# Altium integrated library 200130 Precharge Controller R2.IntLib: 62 symbols
Pins are listed as number, name and electrical type; pins without a type are passive.

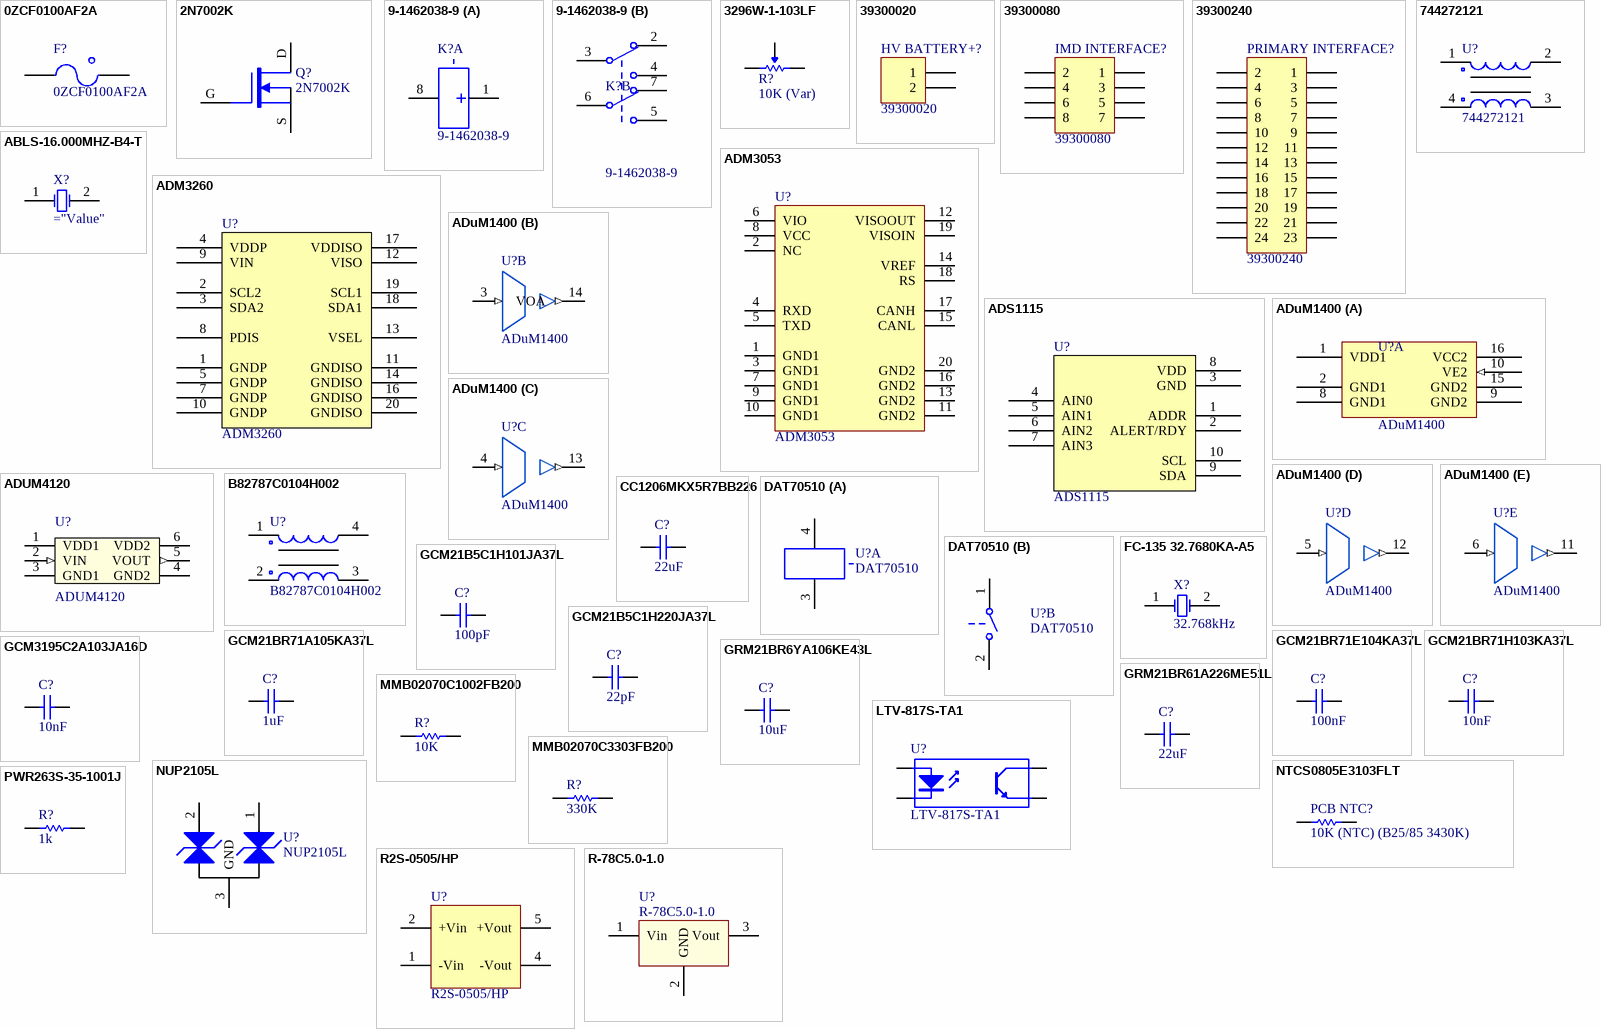
[diagram p0: symbols 0ZCF0100AF2A to R-78C5.0-1.0]

## 0ZCF0100AF2A
designator F?
PTC RESET FUSE 60V 1A 292; Manufacturer: Littelfuse Inc.; Part Number: 0ZCF0100AF2A; Digikey Part Number: 507-2070-1-ND; Digikey Link: https://www.digikey.com/product-detail/en/bel-fuse-inc/0ZCF0100AF2A/507-2070-1-ND/6210547
footprint 2920
pins: 1, 2

## 2N7002K
designator Q?
60V 380mA, NFET MOSTFET (Small Signal); Manufacturer: ON Semiconductor; Published: 24-Mar-1999; LatestRevisionDate: 29-May-2009; LatestRevisionNote: IPC-7351 Footprint Added.; PackageVersion: Sep-2000; PackageReference: SOT-343; Publisher: Altium Limited; PackageDescription: 4-Pin SOT-343 Package 1.3 mm Pitch, 2.1 mm Lead Span; Part Number: 2N7002K; Digikey Part Number: 2N7002KCT-ND; Digikey Link: https://www.digikey.com/product-detail/en/on-semiconductor/2N7002K/2N7002KCT-ND/2060375; Qty: 30
footprint SOT-343_N (SOT343, 4-Leads, Body 2x1.3 mm, Pitch 1.3mm, Lead Span 2.1mm, IPC Medium Density)
footprint SOT-343_L (SOT343, 4-Leads, Body 2x1.3 mm, Pitch 1.3mm, Lead Span 2.1mm, IPC High Density)
footprint SOT-343_M (SOT343, 4-Leads, Body 2x1.3 mm, Pitch 1.3mm, Lead Span 2.1mm, IPC Low Density)
simulation model NMOS (MOSFET-N)
footprint ON SOT-23 MOSFET
pins: D, G, S

## 9-1462038-9
designator K?
RELAY TELECOM DPDT 5A 5V; Manufacturer: TE Connectivity; Part Number: 9-1462038-9; Digikey Part Number: PB1172CT-ND; Digikey Link: https://www.digikey.com.au/product-detail/en/te-connectivity-potter-brumfield-relays/9-1462038-9/PB1172CT-ND/1828462
footprint TE IM DPDT 2C
part A pins: 1, 8
part B pins: 2, 3, 4, 5, 6, 7

## 3296W-1-103LF
designator R?, comment 10K (Var)
Part Number: 3296W-1-103LF; Manufacturer: Bournes Inc; Tolerance: 0.1; Rated Voltage: 0.5W; Value: 10K (Var); Digikey Part Number: 3296W-103LF-ND
footprint B 3296
pins: 1 CCW, 2 Wiper, 3 CW

## 39300020
designator HV BATTERY+?
Positions: 2; Pitch: 4.2mm; Row Spacing: 5.5mm; Angle: 90; Flange: No; Contact: Tin; Part Number: 39300020; Digikey Part Number: WM21351-ND
footprint 39300020
pins: 1, 2

## 39300080
designator IMD INTERFACE?
Positions: 8; Pitch: 4.2mm; Row Spacing: 5.5mm; Angle: 90; Flange: No; Contact: Tin; Part Number: 39300080; Digikey Part Number: WM21354-ND
footprint 39300080
pins: 1, 2, 3, 4, 5, 6, 7, 8

## 39300240
designator PRIMARY INTERFACE?
Positions: 24; Pitch: 4.2mm; Row Spacing: 5.5mm; Angle: 90; Flange: No; Contact: Tin; Part Number: 39300240; Digikey Part Number: WM21362-ND
footprint 39300240
pins: 1, 2, 3, 4, 5, 6, 7, 8, 9, 10, 11, 12, 13, 14, 15, 16, 17, 18, 19, 20, 21, 22, 23, 24

## 744272121
designator U?
120µH @ 100kHz 2 Line Common Mode Choke Surface Mount 460 Ohms @ 30MHz 2.5A DCR 25mOhm; Manufacturer: Wurth Electronics Inc; Inductance: 120uH @ 100kHz; Part Number: 744272121; Impedence: 460 Ohms @ 30MHz; Material: Wirewound; Rated Current: 2.5A; Digikey Part Number: 732-1489-1-ND; Digikey Link: https://www.digikey.com/product-detail/en/w-rth-elektronik/744272121/732-1489-1-ND/1639501
footprint INDC3216 (Chip Inductor, Body 3.2x1.6mm, IPC High Density)
footprint INDC4532 (Chip Inductor, Body 4.5x3.2mm, IPC High Density)
footprint Wurth 4-PC Pad
pins: 1, 2, 3 (power), 4

## ABLS-16.000MHZ-B4-T
designator X?
Part Number: ABLS-16.000MHZ-B4-T; Manufacturer: Abracon LLC; Load Capacitance: 18pF; ESR: 40R; Digikey Part Number: 535-10226-1-ND; Digikey Link: https://www.digikey.com/product-detail/en/abracon-llc/ABLS-16.000MHZ-B4-T/535-10226-1-ND/2184261
footprint Abracon HC-49/US
pins: 1 OSC1, 2 OSC2

## ADM3053
designator U?
Isolated CAN Transceiver; Manufacturer: Analogue Devices; Part Number: ADM3053; Digikey Part Number: ADM3053BRWZ-ND; Digikey Link: https://www.digikey.com/product-detail/en/analog-devices-inc/ADM3053BRWZ/ADM3053BRWZ-ND/2709332
footprint AD SOIC-W 20
pins: 1 GND1, 2 NC, 3 GND1, 4 RXD, 5 TXD, 6 VIO, 7 GND1, 8 VCC, 9 GND1, 10 GND1, 11 GND2, 12 VISOOUT, 13 GND2, 14 VREF, 15 CANL, 16 GND2, 17 CANH, 18 RS, 19 VISOIN, 20 GND2

## ADM3260
designator U?
I²C Digital Isolator 2500Vrms 2 Channel 25kV/µs CMTI 20-SSOP (0.209", 5.30mm Width); Manufacturer: Analog Devices; Part Number: ADM3260; Digikey Part Number: ADM3260ARSZ-RL7CT-ND; Digikey Link: https://www.digikey.com/product-detail/en/analog-devices-inc/ADM3260ARSZ-RL7/ADM3260ARSZ-RL7CT-ND/5233040
footprint AD 20-SSOP
pins: 1 GNDP, 2 SCL2, 3 SDA2, 4 VDDP, 5 GNDP, 7 GNDP, 8 PDIS, 9 VIN, 10 GNDP, 11 GNDISO, 12 VISO, 13 VSEL, 14 GNDISO, 16 GNDISO, 17 VDDISO, 18 SDA1, 19 SCL1, 20 GNDISO

## ADS1115
designator U?
16 Bit Analog to Digital Converter 2, 4 Input 1 Sigma-Delta 10-VSSOP; Manufacturer: Texas Instruments; Part Number: ADS1115; Digikey Part Number: 296-38849-1-ND; Digikey Link: https://www.digikey.com/product-detail/en/texas-instruments/ADS1115IDGSR/296-38849-1-ND/5142969
footprint TI 10-VSSOP
pins: 1 ADDR, 2 ALERT/RDY, 3 GND, 4 AIN0, 5 AIN1, 6 AIN2, 7 AIN3, 8 VDD, 9 SDA, 10 SCL

## ADuM1400
designator U?
General Purpose Digital Isolator 2500Vrms 4 Channel 1Mbps 25kV/µs CMTI 16-SOIC (0.295", 7.50mm Width); Manufacturer: Analog Devices; Part Number: ADuM1400; Digikey Part Number: ADUM1400WSRWZ-ND; Digikey Link: https://www.digikey.com/product-detail/en/analog-devices-inc/ADUM1400WSRWZ/ADUM1400WSRWZ-ND/1873713
footprint AD 16-SOIC
part A pins: 1 VDD1 (power) "Output", 2 GND1 (power) "Output", 8 GND1 (power) "Output", 9 GND2 (power) "Output", 10 VE2 (in) "Output", 15 GND2 (power) "Output", 16 VCC2 (power) "Output"
part B pins: 3 VIA (in) "Output", 14 VOA (out) "Output"
part C pins: 4 VIB (in) "Output", 13 VOB (out) "Output"
part D pins: 5 VIC (in) "Output", 12 VOC (out) "Output"
part E pins: 6 VID (in) "Output", 11 VOD (out) "Output"

## ADUM4120
designator U?
DGTL ISO 5KV 1CH GATE DRVR 6SOIC; Manufacturer: Analogue Devices; Part Number: ADUM4120; Digikey Part Number: ADUM4120-1ARIZ-ND; Digikey Link: https://www.digikey.com/product-detail/en/analog-devices-inc/ADUM4120-1ARIZ/ADUM4120-1ARIZ-ND/7324273
footprint AD 6-SOIC
pins: 1 VDD1 (power), 2 VIN (in), 3 GND1 (power), 4 GND2 (power), 5 VOUT (out), 6 VDD2 (power)

## B82787C0104H002
designator U?
100µH @ 100kHz 2 Line Common Mode Choke Surface Mount 5.8 kOhms @ 10MHz 150mA DCR 2Ohm; Manufacturer: EPCOS (TDK); Part Number: B82787C0104H002; Inductance: 100µH @ 100kHz; Impedence: 5.8 kOhms @ 10MHz; Material: Wirewound; Rated Current: 150mA; Digikey Part Number: 495-4598-1-ND; Digikey Link: https://www.digikey.com/product-detail/en/epcos-tdk/B82787C0104H002/495-4598-2-ND/3680998
footprint TDK 4-PC Pad
pins: 1, 2, 3 (power), 4

## CC1206MKX5R7BB226
designator C?, comment 22uF
Part Number: CC1206MKX5R7BB226; Manufacturer: YAGEO; Tolerance: 20%; Material: Ceramic; Rated Voltage: 16V; Value: 22uF; Digikey Part Number: 311-1997-2-ND
footprint 1206
pins: 1, 2

## DAT70510
designator U?
RELAY REED SPST-NO 2A 12V; Manufacturer: Cynergy 3; Part Number: DAT70510; Digikey Part Number: 725-1038-ND; Digikey Link: https://www.digikey.com.au/product-detail/en/cynergy-3/DBT70510/725-1038-ND/752033
footprint C3 SPST
part A pins: 3, 4
part B pins: 1, 2

## FC-135 32.7680KA-A5
designator X?, comment 32.768kHz
Part Number: FC-135 32.7680KA-A5; Manufacturer: EPSON; Load Capacitance: 12.5pF; ESR: 70k; Value: 32.768kHz; Digikey Part Number: SER4103TR-ND; Digikey Link: https://www.digikey.com/product-detail/en/epson/FC-135-32.7680KA-A5/SER4103TR-ND/5259895
footprint EPSON 2-SMD
pins: 1 OSC1, 2 OSC2

## GCM21B5C1H101JA37L
designator C?, comment 100pF
Part Number: GCM21B5C1H101JA37L; Manufacturer: muRata; Tolerance: 5%; Material: C0G; Rated Voltage: 50V; Value: 100pF
footprint 0805
pins: 1, 2

## GCM21B5C1H220JA37L
designator C?, comment 22pF
Part Number: GCM21B5C1H220JA37L; Manufacturer: muRata; Tolerance: 5%; Material: C0G; Rated Voltage: 50V; Value: 22pF
footprint 0805
pins: 1, 2

## GCM21BR71A105KA37L
designator C?, comment 1uF
Part Number: GCM21BR71A105KA37L; Manufacturer: muRata; Tolerance: 10%; Material: X7R; Rated Voltage: 10V; Value: 1uF
footprint 0805
pins: 1, 2

## GCM21BR71E104KA37L
designator C?, comment 100nF
Part Number: GCM21BR71E104KA37L; Manufacturer: muRata; Tolerance: 10%; Material: X7R; Rated Voltage: 25V; Value: 100nF
footprint 0805
pins: 1, 2

## GCM21BR71H103KA37L
designator C?, comment 10nF
Part Number: GCM21BR71H103KA37L; Manufacturer: muRata; Tolerance: 10%; Material: X7R; Rated Voltage: 50V; Value: 10nF
footprint 0805
pins: 1, 2

## GCM3195C2A103JA16D
designator C?, comment 10nF
Part Number: GCM3195C2A103JA16D; Manufacturer: muRata; Tolerance: 5%; Material: Ceramic; Rated Voltage: 100V; Value: 10nF; Digikey Part Number: 490-4978-2-ND
footprint 1206
pins: 1, 2

## GRM21BR6YA106KE43L
designator C?, comment 10uF
Part Number: GRM21BR6YA106KE43L; Manufacturer: muRata; Tolerance: 10%; Material: X5R; Rated Voltage: 50V; Value: 10uF; Digikey Part Number: 490-10514-6-ND
footprint 0805
pins: 1, 2

## GRM21BR61A226ME51L
designator C?, comment 22uF
Part Number: GRM21BR61A226ME51L; Manufacturer: muRata; Tolerance: 20%; Material: X5R; Rated Voltage: 10V; Value: 22uF; Digikey Part Number: 490-10511-1-ND
footprint 0805
pins: 1, 2

## LTV-817S-TA1
designator U?
35V 50ma Optocoupler (VF=1.2V); Manufacturer: Lite-On Inc; Part Number: LTV-817S-TA1; Digikey Part Number: 160-1893-2-ND; Digikey Link: https://www.digikey.com/product-detail/en/lite-on-inc/LTV-817S-TA1/160-1893-2-ND/388451
footprint ON 4-SMD
pins: 1 A "Anode", 2 K "Cathode", 3 E "Emitter", 4 C "Collector"

## MMB02070C1002FB200
designator R?, comment 10K
Part Number: MMB02070C1002FB200; Manufacturer: Vishay Beyschlag; Tolerance: 0.01; Rated Voltage: 1W; Value: 10K; Digikey Part Number: MMB-10KBCT-ND
footprint VB 0207
pins: 1, 2

## MMB02070C3303FB200
designator R?, comment 330K
Part Number: MMB02070C3303FB200; Manufacturer: Vishay Beyschlag; Tolerance: 0.01; Rated Voltage: 1W; Value: 330K; Digikey Part Number: MMB-330KBCT-ND
footprint VB 0207
pins: 1, 2

## NTCS0805E3103FLT
designator PCB NTC?, comment 10K (NTC) (B25/85 3430K)
Part Number: NTCS0805E3103FLT; Manufacturer: Vishay Beyschlag; Tolerance: 0.01; Rated Voltage: 210mW; Value: 10K (NTC) (B25/85 3430K); Digikey Part Number: BC2733CT-ND
footprint 0805
pins: 1, 2

## NUP2105L
designator U?
Dual Line CAN Bus Protector; Manufacturer: ON Semiconductor; Part Number: NUP2105L; Digikey Part Number: NUP2105LT1GOSCT-ND; Digikey Link: https://www.digikey.com/product-detail/en/on-semiconductor/NUP2105LT1G/NUP2105LT1GOSCT-ND/1485001
footprint ON SOT-23 BJT (NUP2105L)
footprint ON SOT-23
pins: 1 CAN H, 2 CAN L, 3 GND (power)

## PWR263S-35-1001J
designator R?, comment 1k
Part Number: PWR263S-35-1001J; Manufacturer: Bournes Inc; Tolerance: 0.05; Rated Voltage: 35W; Value: 1k; Digikey Part Number: PWR263S-35-1001J-ND
footprint B TO-263
pins: 1, 2

## R2S-0505/HP
designator U?
Isolated Module DC DC Converter 1 Output 3.3V 606mA 4.5V - 5.5V Input; Manufacturer: Recom; Output Voltage: 5V; Output Power: 2W; Efficiency: 0.85; Part Number: R2S-0505/HP; Input Voltage: 4.5V-5.5V; Isolation: Isolated; Digikey Part Number: 945-1764-5-ND; Digikey Link: https://www.digikey.com/product-detail/en/recom-power/R2S-0505-HP/945-1764-5-ND/2302761
footprint RECOM 8-SMD (5 Pin)
pins: 1 -Vin (power), 2 +Vin (power), 4 -Vout (power), 5 +Vout (power)

## R-78C5.0-1.0
designator U?
CONV DC/DC 1A 5V OUT SIP VERT; Manufacturer: Recom; Isolation: Non-Isolated; Part Number: R-78C5.0-1.0; Digikey Part Number: 945-1395-5-ND; Digikey Link: https://www.digikey.com.au/product-detail/en/recom-power/R-78C5.0-1.0/945-1395-5-ND/2652148
footprint RECOM 3-SIP
pins: 1 Vin, 2 GND, 3 Vout

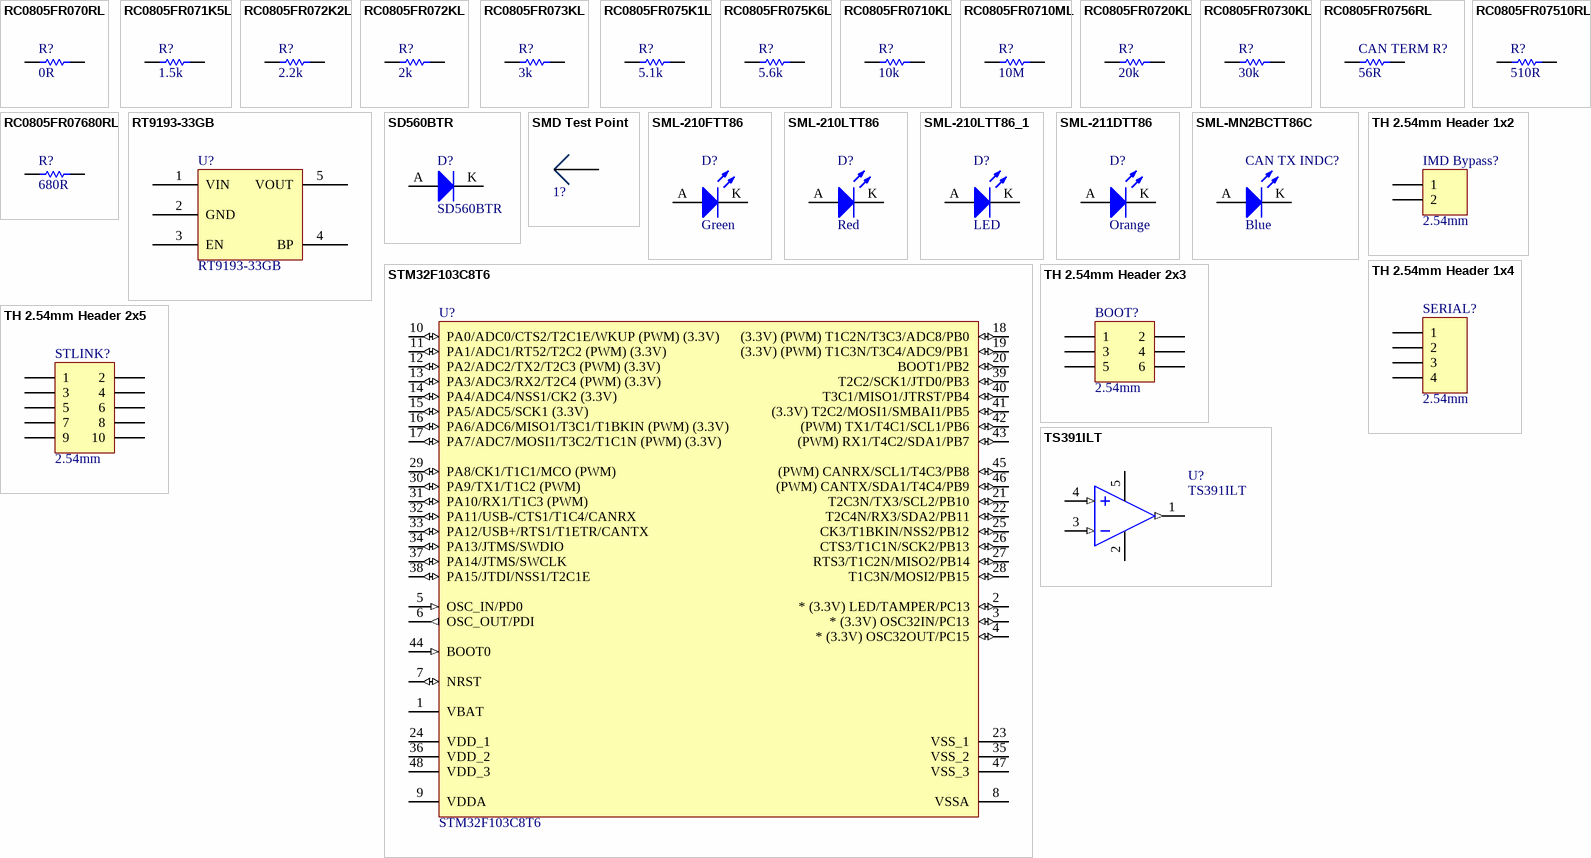
[diagram p1: symbols RC0805FR070RL to TS391ILT]

## RC0805FR070RL
designator R?, comment 0R
Part Number: RC0805FR070RL; Manufacturer: YAGEO; Tolerance: 0.01; Rated Voltage: 0.125W; Value: 0R; Material: FR-07
footprint 0805
pins: 1, 2

## RC0805FR071K5L
designator R?, comment 1.5k
Part Number: RC0805FR071K5L; Manufacturer: YAGEO; Tolerance: 0.01; Rated Voltage: 0.125W; Value: 1.5k; Material: FR-07
footprint 0805
pins: 1, 2

## RC0805FR072K2L
designator R?, comment 2.2k
Part Number: RC0805FR072K2L; Manufacturer: YAGEO; Tolerance: 0.01; Rated Voltage: 0.125W; Value: 2.2k; Material: FR-07
footprint 0805
pins: 1, 2

## RC0805FR072KL
designator R?, comment 2k
Part Number: RC0805FR072KL; Manufacturer: YAGEO; Tolerance: 0.01; Rated Voltage: 0.125W; Value: 2k; Material: FR-07
footprint 0805
pins: 1, 2

## RC0805FR073KL
designator R?, comment 3k
Part Number: RC0805FR073KL; Manufacturer: YAGEO; Tolerance: 0.01; Rated Voltage: 0.125W; Value: 3k; Material: FR-07
footprint 0805
pins: 1, 2

## RC0805FR075K1L
designator R?, comment 5.1k
Part Number: RC0805FR075K1L; Manufacturer: YAGEO; Tolerance: 0.01; Rated Voltage: 0.125W; Value: 5.1k; Material: FR-07
footprint 0805
pins: 1, 2

## RC0805FR075K6L
designator R?, comment 5.6k
Part Number: RC0805FR075K6L; Manufacturer: YAGEO; Tolerance: 0.01; Rated Voltage: 0.125W; Value: 5.6k; Material: FR-07
footprint 0805
pins: 1, 2

## RC0805FR0710KL
designator R?, comment 10k
Part Number: RC0805FR0710KL; Manufacturer: YAGEO; Tolerance: 0.01; Rated Voltage: 0.125W; Value: 10k; Material: FR-07
footprint 0805
pins: 1, 2

## RC0805FR0710ML
designator R?, comment 10M
Part Number: RC0805FR0710ML; Manufacturer: YAGEO; Tolerance: 0.01; Rated Voltage: 0.125W; Value: 10M; Material: FR-07
footprint 0805
pins: 1, 2

## RC0805FR0720KL
designator R?, comment 20k
Part Number: RC0805FR0720KL; Manufacturer: YAGEO; Tolerance: 0.01; Rated Voltage: 0.125W; Value: 20k; Material: FR-07
footprint 0805
pins: 1, 2

## RC0805FR0730KL
designator R?, comment 30k
Part Number: RC0805FR0730KL; Manufacturer: YAGEO; Tolerance: 0.01; Rated Voltage: 0.125W; Value: 30k; Material: FR-07
footprint 0805
pins: 1, 2

## RC0805FR0756RL
designator CAN TERM R?, comment 56R
Part Number: RC0805FR0756RL; Manufacturer: YAGEO; Tolerance: 0.01; Rated Voltage: 0.125W; Value: 56R; Material: FR-07
footprint 0805
pins: 1, 2

## RC0805FR07510RL
designator R?, comment 510R
Part Number: RC0805FR07510RL; Manufacturer: YAGEO; Tolerance: 0.01; Rated Voltage: 0.125W; Value: 510R; Material: FR-07
footprint 0805
pins: 1, 2

## RC0805FR07680RL
designator R?, comment 680R
Part Number: RC0805FR07680RL; Manufacturer: YAGEO; Tolerance: 0.01; Rated Voltage: 0.125W; Value: 680R; Material: FR-07
footprint 0805
pins: 1, 2

## RT9193-33GB
designator U?
IC REG LINEAR 3.3V 300MA SOT23-5; Manufacturer: Richtek; Part Number: RT9193-33GB; Digikey Part Number: 1028-1014-1-ND; Digikey Link: https://www.digikey.com/products/en?keywords=1028-1014-1-ND
footprint RICHTEK SOT-23-5
pins: 1 VIN, 2 GND, 3 EN, 4 BP, 5 VOUT

## SD560BTR
designator D?
1.2V_F 600V 5A SMB; Manufacturer: SMC Diode Solutions; Part Number: SD560BTR; Digikey Part Number: 1655-1530-2-ND; Digikey Link: https://www.digikey.com/product-detail/en/smc-diode-solutions/SD560BTR/1655-1530-2-ND/6022620
footprint SMB Diode
pins: A, K

## SMD Test Point
designator 1?, comment 0mm  (value not drawn)
Part Number: SMD Test Point; Positions: 1; Row Spacing: 0; Flange: No; Contact: NA; Pitch: 0mm; Angle: 0
footprint SMD Test Point
pins: 1

## SML-210FTT86
designator D?, comment Green
Green LED Indication - Discrete 1.75V 0805 (2012 Metric); Part Number: SML-210FTT86; Manufacturer: ROHM Semiconductor; Colour: Green; Digikey Part Number: 511-1285-1-ND; Digikey Link: https://www.digikey.com/product-detail/en/rohm-semiconductor/SML-210FTT86/511-1285-1-ND/637098
footprint 0805 LED
pins: A, K

## SML-210LTT86
designator D?, comment Red
Red LED Indication - Discrete 1.75V 0805 (2012 Metric); Part Number: SML-210LTT86; Manufacturer: ROHM Semiconductor; Colour: Red; Digikey Part Number: 511-1286-1-ND; Digikey Link: https://www.digikey.com/product-detail/en/rohm-semiconductor/SML-210LTT86/511-1286-1-ND/637099
footprint 0805 LED
pins: A, K

## SML-210LTT86_1
designator D?, comment LED
Red LED Indication - Discrete 1.75V 0805 (2012 Metric); Manufacturer: ROHM Semiconductor; Part Number: SML-210LTT86; Colour: Red; Digikey Part Number: 511-1286-1-ND; Digikey Link: https://www.digikey.com/product-detail/en/rohm-semiconductor/SML-210LTT86/511-1286-1-ND/637099
footprint 0805 LED
pins: A, K

## SML-211DTT86
designator D?, comment Orange
Orange LED Indication - Discrete 1.75V 0805 (2012 Metric); Part Number: SML-211DTT86; Manufacturer: ROHM Semiconductor; Colour: Orange; Digikey Part Number: 511-1291-1-ND; Digikey Link: https://www.digikey.com/product-detail/en/rohm-semiconductor/SML-211DTT86/511-1291-1-ND/637104
footprint 0805 LED
pins: A, K

## SML-MN2BCTT86C
designator CAN TX INDC?, comment Blue
LED BLUE CLEAR 2012 SMD; Part Number: SML-MN2BCTT86C; Manufacturer: ROHM Semiconductor; Colour: Blue; Digikey Part Number: 846-1207-1-ND; Digikey Link: https://www.digikey.com/product-detail/en/rohm-semiconductor/SMLMN2BCTT86C/846-1207-1-ND/6057239
footprint 0805 LED
pins: A, K

## STM32F103C8T6
designator U?
ARM® Cortex®-M3 STM32F1 Microcontroller IC 32-Bit 72MHz 64KB (64K x 8) FLASH; Manufacturer: STMicroelectronics; Part Number: STM32F103C8T6; Digikey Part Number: 497-6063-ND; Digikey Link: https://www.digikey.com/product-detail/en/stmicroelectronics/STM32F103C8T6/497-6063-ND/1646338
footprint STM 48-LQFP
pins: 1 VBAT (power), 2 * (3.3V) LED/TAMPER/PC13 (io), 3 * (3.3V) OSC32IN/PC13 (io), 4 * (3.3V) OSC32OUT/PC15 (io), 5 OSC_IN/PD0 (in), 6 OSC_OUT/PDI (out), 7 NRST (io), 8 VSSA (power), 9 VDDA (power), 10 PA0/ADC0/CTS2/T2C1E/WKUP (PWM) (3.3V) (io), 11 PA1/ADC1/RT52/T2C2 (PWM) (3.3V) (io), 12 PA2/ADC2/TX2/T2C3 (PWM) (3.3V) (io), 13 PA3/ADC3/RX2/T2C4 (PWM) (3.3V) (io), 14 PA4/ADC4/NSS1/CK2 (3.3V) (io), 15 PA5/ADC5/SCK1 (3.3V) (io), 16 PA6/ADC6/MISO1/T3C1/T1BKIN (PWM) (3.3V) (io), 17 PA7/ADC7/MOSI1/T3C2/T1C1N (PWM) (3.3V) (io), 18 (3.3V) (PWM) T1C2N/T3C3/ADC8/PB0 (io), 19 (3.3V) (PWM) T1C3N/T3C4/ADC9/PB1 (io), 20 BOOT1/PB2 (io), 21 T2C3N/TX3/SCL2/PB10 (io), 22 T2C4N/RX3/SDA2/PB11 (io), 23 VSS_1 (power), 24 VDD_1 (power), 25 CK3/T1BKIN/NSS2/PB12 (io), 26 CTS3/T1C1N/SCK2/PB13 (io), 27 RTS3/T1C2N/MISO2/PB14 (io), 28 T1C3N/MOSI2/PB15 (io), 29 PA8/CK1/T1C1/MCO (PWM) (io), 30 PA9/TX1/T1C2 (PWM) (io), 31 PA10/RX1/T1C3 (PWM) (io), 32 PA11/USB-/CTS1/T1C4/CANRX (io), 33 PA12/USB+/RTS1/T1ETR/CANTX (io), 34 PA13/JTMS/SWDIO (io), 35 VSS_2 (power), 36 VDD_2 (power), 37 PA14/JTMS/SWCLK (io), 38 PA15/JTDI/NSS1/T2C1E (io), 39 T2C2/SCK1/JTD0/PB3 (io), 40 T3C1/MISO1/JTRST/PB4 (io), 41 (3.3V) T2C2/MOSI1/SMBAI1/PB5 (io), 42 (PWM) TX1/T4C1/SCL1/PB6 (io), 43 (PWM) RX1/T4C2/SDA1/PB7 (io), 44 BOOT0 (in), 45 (PWM) CANRX/SCL1/T4C3/PB8 (io), 46 (PWM) CANTX/SDA1/T4C4/PB9 (io), 47 VSS_3 (power), 48 VDD_3 (power)

## TH 2.54mm Header 1x2
designator IMD Bypass?, comment 2.54mm
Part Number: TH 2.54mm Header 1x2; Positions: 2; Angle: 0; Flange: No; Contact: NA; Pitch: 2.54mm; Row Spacing: 2.54mm
footprint TH 2.54mm Header 1x2
pins: 1, 2

## TH 2.54mm Header 1x4
designator SERIAL?, comment 2.54mm
Part Number: TH 2.54mm Header 1x4; Positions: 4; Angle: 0; Flange: No; Contact: NA; Pitch: 2.54mm; Row Spacing: 2.54mm
footprint TH 2.54mm Header 1x4
pins: 1, 2, 3, 4

## TH 2.54mm Header 2x3
designator BOOT?, comment 2.54mm
Part Number: TH 2.54mm Header 2x3; Positions: 6; Angle: 0; Flange: No; Contact: NA; Pitch: 2.54mm; Row Spacing: 2.54mm
footprint TH 2.54mm Header 2x3
pins: 1, 2, 3, 4, 5, 6

## TH 2.54mm Header 2x5
designator STLINK?, comment 2.54mm
Part Number: TH 2.54mm Header 2x5; Positions: 10; Angle: 0; Flange: No; Contact: NA; Pitch: 2.54mm; Row Spacing: 2.54mm
footprint TH 2.54mm Header 2x5
pins: 1, 2, 3, 4, 5, 6, 7, 8, 9, 10

## TS391ILT
designator U?
IC COMP LO PWR SGL V SOT 23-5L; Manufacturer: STMicroelectronics; Part Number: TS391ILT; Digikey Part Number: 497-2275-2-ND; Digikey Link: https://www.digikey.com/product-detail/en/stmicroelectronics/TS391ILT/497-2275-2-ND/599407
footprint ON SOT-23-5
pins: 1 OUT (out), 2 VCC- (power), 3 IN- (in), 4 IIN+ (in), 5 VCC+ (power)